# Altium schematic symbol library X1 & Y1 Capacitors.SchLib: 1 symbol
Pins are listed as number, name and electrical type; pins without a type are passive.

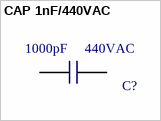
[diagram p0: symbol CAP 1nF/440VAC]

## CAP 1nF/440VAC
designator C?  Voltage: 440VAC  Capacitance: 1000pF  (hidden comment: CAP 1nF/440VAC)
1000pF ±20% 440VAC Ceramic Capacitor E Radial, Disc Class X1Y1; Manufacturer 1: TDK Corporation; Manufacturer 1 PN: CD45-E2GA102M-NKA; ComponentLink1Description: Datasheet; ComponentLink1URL: https://product.tdk.com/info/en/catalog/datasheets/leaddisc_commercial_cd45_en.pdf; Digikey PN: 445-174535-ND; Mouser PN: 810-CD45-E2GA102MNKA
footprint CAP 1nF/440VAC (1000pF ±20% 440VAC Ceramic Capacitor E Radial, Disc Class X1Y1)
pins: 1, 2